# EAGLE library part OPA549 (library EW_IC_Op_Amps)
Revised part for OPA549
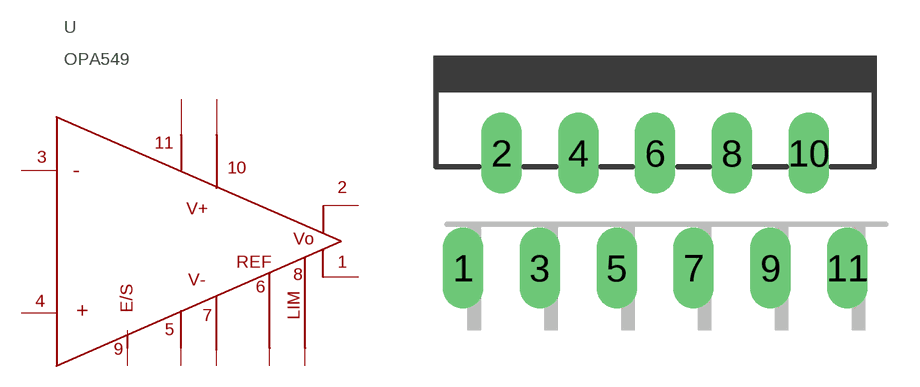
[diagram p2: symbol with the pads of OPA549; footprint OPA549]

Designator prefix U

## OPA549  [OPA549]
1  P$1
2  P$2
3  P$3
4  P$4
5  P$5
6  P$6
7  P$7
8  P$8
9  P$9
10  P$10
11  P$11

## Footprint OPA549 (pad centres in mm)
drill 1.2 long: 1 -0.109,2.54; 2 1.591,7.62; 3 3.291,2.54; 4 4.991,7.62; 5 6.691,2.54; 6 8.391,7.62; 7 10.091,2.54; 8 11.791,7.62; 9 13.491,2.54; 10 15.191,7.62; 11 16.891,2.54